# Altium footprint library CN_SOCKET_PDIP40.PcbLib: 1 footprints
Each footprint in its own frame and in the unit in brackets; x right, y up, seen from the top. Pads: shape width x height; smd on the part's side, far side on the other; paste and mask are expansions set on the pad; w line width, h text height; cw(c..) or ccw(c..) is an arc to the next point about the centre after c.

## CN_SOCKET_PDIP40 [mm] "PDIP40"
3D body: height 5.1, standoff -3, extent -1.23,-49.53 16.47,1.27